# Altium footprint library Chip Resistor - Surface Mount.PcbLib: 2 footprints
Each footprint in its own frame and in the unit in brackets; x right, y up, seen from the top. Pads: shape width x height; smd on the part's side, far side on the other; paste and mask are expansions set on the pad; w line width, h text height; cw(c..) or ccw(c..) is an arc to the next point about the centre after c.
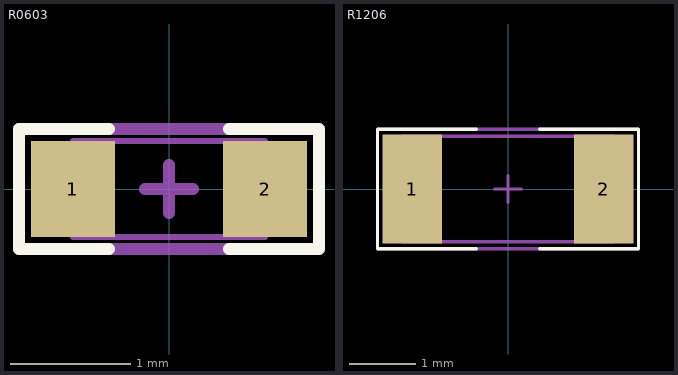
[diagram p0: the footprints below, top view; thin cyan lines are the x and y axes]

## R0603 [mm] "Surface Mount Resıstor"
pads (2):
  rect 0.7x0.8 smd mask+0.05: 1(-0.8,0) 2(0.8,0)
Top Overlay:
  lines w0.1: -0.5,-0.5 -1.25,-0.5 ; -0.5,0.5 -1.25,0.5 -1.25,-0.5 ; 0.5,-0.5 1.25,-0.5 1.25,0.5 ; 0.5,0.5 1.25,0.5 ; -1.25,-0.5 -1.25,-0.5 ; -1.25,-0.5 -1.25,-0.5 ; 1.25,0.5 1.25,0.5 ; 1.25,0.5 1.25,0.5
Top 3D Body:
  lines w0.05: -0.8,-0.4 0.8,-0.4 0.8,0.4 -0.8,0.4 -0.8,-0.4
Top Component Center:
  lines w0.1: -0.2,0 0.2,0 ; 0,-0.2 0,0.2 ; -1.25,-0.5 -1.25,0.5 1.25,0.5 1.25,-0.5 -1.25,-0.5
Top Designator:
  lines w0.1: -1.25,-0.5 -1.25,0.5 1.25,0.5 1.25,-0.5 -1.25,-0.5
  text ".Designator" at -0.963,-0.216 h0.5
3D body "Resistor_0603_Text.step": height 0.47, standoff 0.01, extent -0.8,-0.4 0.8,0.4

## R1206 [mm] "Surface Mount Resıstor"
pads (2):
  rect 0.9x1.65 smd mask+0.05: 1(-1.45,0) 2(1.45,0)
Top Overlay:
  lines w0.05: -0.48,-0.905 -1.98,-0.905 -1.98,0.905 -0.48,0.905 ; 0.48,-0.905 1.98,-0.905 1.98,0.905 0.48,0.905
Top 3D Body:
  lines w0.05: -1.6,-0.8 -1.6,0.8 1.6,0.8 1.6,-0.8 -1.6,-0.8
Top Component Center:
  lines w0.05: -0.2,0 0.2,0 ; 0,-0.2 0,0.2 ; -1.98,-0.905 -1.98,0.905 1.98,0.905 1.98,-0.905 -1.98,-0.905
Top Designator:
  lines w0.05: -1.98,-0.905 1.98,-0.905 1.98,0.905 -1.98,0.905 -1.98,-0.905
  text ".Designator" at -0.213,-0.119 h0.5
3D body "Resistor_1206_Text.step": height 0.62, standoff 0.01, extent -1.6,-0.8 1.6,0.8